# EAGLE library part 1432УД13 (library operational-amplifier)
АЕЯР.431100.280-06ТУ 1432УД13 – операционный усилитель с токовой обратной связью, сочетающий хорошие динамические и статические параметры с малой потребляемой мощностью, устойчиво работающий на емкостные нагрузки при коэффициентах усиления вплоть до Ку=+1. Достоинства: ► Максимальное выходное напряжение 3,0 В ► Ток потребления 15 мА ► Скорость нарастания 150 В/мкс ► Диапазон рабочих температур -60…85 °С Параметры, единица измерения Норма параметра не менее не более Максимальное выходное напряжение, В 3,0 – Напряжение смещения, мВ – 10 Ток потребления на один канал, мА – 15 Входной ток по неинвертирующему входу, мкА – 12 Входной ток по инвертирующему входу, мкА – 25 Коэффициент преобразования, В/мА 500 – Выходной ток, мА 30 – Верхняя граничная частота полосы пропускания, МГц 60 – Максимальна скорость нарастания выходного напряжения, В/мкс 150 – Нормированная ЭДС шума, приведення к входу на частоте 10 кГц, нВ/√Гц – 7 Коэффициент разделения каналов, дБ 50 – Производитель: ОАО «НПП «ПУЛЬСАР», г. Москва.
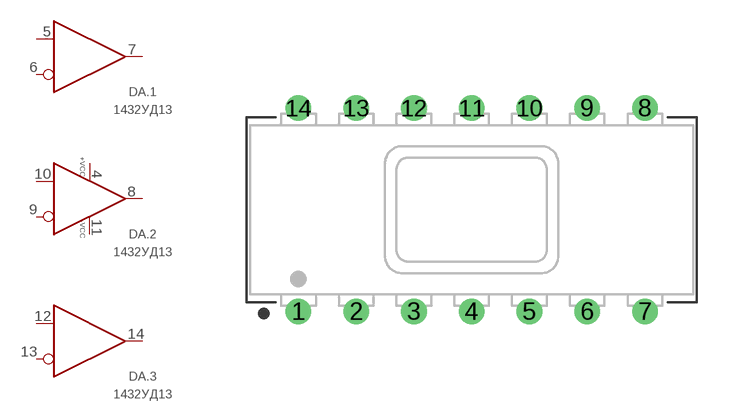
[diagram p6: symbol with the pads of 201.14-10; footprint 201.14-10]

Designator prefix DA; gates .2=OPERATIONAL-AMPLIFIER-SIMPLE .1=OPERATIONAL-AMPLIFIER-SIMPLE .3=OPERATIONAL-AMPLIFIER-SIMPLE G$4=POWER_2

## 1432УД13  [201.14-10]
4  G$4:+VCC  pwr
5  .1:IN  in
6  .1:!IN  in
7  .1:OUT  out
8  .2:OUT  out
9  .2:!IN  in
10  .2:IN  in
11  G$4:-VCC  pwr
12  .3:IN  in
13  .3:!IN  in
14  .3:OUT  out

## Footprint 201.14-10 (pad centres in mm)
drill 0.6: 1 -7.5,-4.4; 2 -5,-4.4; 3 -2.5,-4.4; 4 0,-4.4; 5 2.5,-4.4; 6 5,-4.4; 7 7.5,-4.4; 8 7.5,4.4; 9 5,4.4; 10 2.5,4.4; 11 0,4.4; 12 -2.5,4.4; 13 -5,4.4; 14 -7.5,4.4